# Altium schematic symbol library C3216X6S1A476M160AC.SchLib: 1 symbol
Pins are listed as number, name and electrical type; pins without a type are passive.

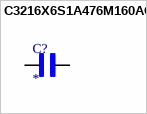
[diagram p0: symbol C3216X6S1A476M160AC]

## C3216X6S1A476M160AC
designator C?
47ÂµF Â±20% 10V Ceramic Capacitor X6S 1206 (3216 Metric); MF: {'manufacturer': u'TDK Corporation'}; MP: C3216X6S1A476M160AC; Package: None; Price: None; Value: *; Availability: Unavailable
footprint CAPC3216X180N
pins: 1, 2